# EAGLE library part NL7SZ18 (library testLib)
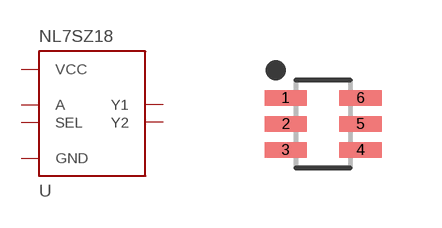
[diagram p4: symbol with the pads of SOP65P210X110-6; footprint SOP65P210X110-6]

Designator prefix U

## NL7SZ18-6TSSOP  [SOP65P210X110-6]
1  SEL
2  GND
3  A
4  Y2
5  VCC
6  Y1

## Footprint SOP65P210X110-6 (pad centres in mm)
6-SOP, 0.65 mm pitch, 2.10 mm span, 2.00 X 1.25 X 1.10 mm body 6-pin SOP package with 0.65 mm pitch, 2.10 mm span with body size 2.00 X 1.25 X 1.10 mm
smd 1.06 x 0.389: 1 -0.935,0.65; 2 -0.935,0; 3 -0.935,-0.65; 4 0.935,-0.65; 5 0.935,0; 6 0.935,0.65